# Altium schematic symbol library Mosfet.SchLib: 3 symbols
Pins are listed as number, name and electrical type; pins without a type are passive.

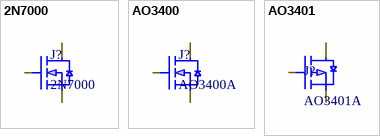
[diagram p0: symbols 2N7000 to AO3401]

## 2N7000
designator J?
60V 200mA 400mW 5Ω@10V 3V@1mA 1 N-Channel TO-92-3L MOSFETs ROHS; Manufacturer: onsemi; Key Attributes: MOSFET N-CH 60V 200mA TO-92-3L; Mfr. Part #: 2N7000; LCSC Part #: C232838; Package: TO-92-3L; Type: N-Channel; RDS(on): 5Ω@10V; Drain to Source Voltage: 60V; Link: https://www.lcsc.com/product-detail/C232838.html?s_z=n_2n7000
footprint 2N7000
pins: 1, 2, 3

## AO3400
designator J?, comment AO3400A
30V 48mΩ@2.5V 1.45V@250uA SOT-23-3L MOSFETs ROHS; Manufacturer: AOS; Key Attributes: MOSFET N-CH 30V SOT-23-3L; Mfr. Part #: AO3400A; LCSC Part #: C20917; Package: SOT-23-3L; Type: N-Channel; RDS(on): 48mΩ@2.5V; Drain to Source Voltage: 30V; Link: https://www.lcsc.com/product-detail/C20917.html?s_z=n_ao3400
footprint AO3400
pins: 1, 2, 3

## AO3401
designator J?, comment AO3401A
30V 4A 900mV@250uA 1 P-Channel SOT-23 MOSFETs ROHS; Manufacturer: AOS; Mfr. Part #: AO3401A; LCSC Part #: C15127; Package: SOT-23; Current - Continuous Drain(Id): 4A; Drain to Source Voltage: 30V; Link: https://www.lcsc.com/product-detail/C15127.html?s_z=n_AO3401
footprint AO3401A
pins: 1 G, 2 S, 3 D